# Altium footprint library Tantulum-Cap.PcbLib: 2 footprints
Each footprint in its own frame and in the unit in brackets; x right, y up, seen from the top. Pads: shape width x height; smd on the part's side, far side on the other; paste and mask are expansions set on the pad; w line width, h text height; cw(c..) or ccw(c..) is an arc to the next point about the centre after c.
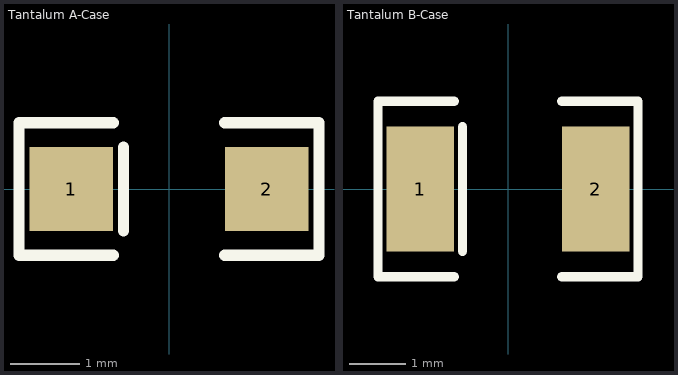
[diagram p0: the footprints below, top view; thin cyan lines are the x and y axes]

## Tantalum A-Case [mm] "Tantalum A-Case"
pads (2):
  rect 1.2x1.2 smd: 1(-1.4,0) 2(1.4,0)
Top Overlay:
  lines w0.16: -0.8,-0.95 -2.15,-0.95 -2.15,0.95 -0.8,0.95 ; -0.65,-0.6 -0.65,0.6 ; 0.8,-0.95 2.15,-0.95 2.15,0.95 0.8,0.95
3D body "casea.stp": height 1.64, standoff 0.01, extent -1.73,-0.8 1.73,0.8

## Tantalum B-Case [mm] "Tantalum B-Case"
pads (2):
  rect 1.2x2.2 smd: 1(-1.55,0) 2(1.55,0)
Top Overlay:
  lines w0.16: -0.95,-1.55 -2.3,-1.55 -2.3,1.55 -0.95,1.55 ; -0.8,-1.1 -0.8,1.1 ; 0.95,-1.55 2.3,-1.55 2.3,1.55 0.95,1.55
3D body "caseb.stp": height 1.94, standoff 0.01, extent -1.73,-1.4 1.73,1.4